# EAGLE library part LM2757TM (library LM2757)
LM2757
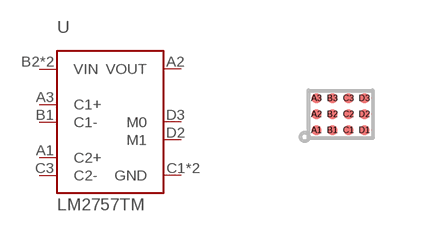
[diagram p0: symbol with the pads of 12-DSBGA; footprint 12-DSBGA]

Designator prefix U

## LM2757TM  [12-DSBGA]
A1  C2+
A2  VOUT  pwr
A3  C1+
B1  C1-
B2  VIN  pwr
B3  VIN  pwr
C1  GND
C2  GND
C3  C2-
D2  M1
D3  M0

## Footprint 12-DSBGA (pad centres in mm)
LM2757
smd 0.24 x 0.24: A1 -0.6,-0.4; A2 -0.6,0; A3 -0.6,0.4; B1 -0.2,-0.4; B2 -0.2,0; B3 -0.2,0.4; C1 0.2,-0.4; C2 0.2,0; C3 0.2,0.4; D1 0.6,-0.4; D2 0.6,0; D3 0.6,0.4